# Altium schematic symbol library Power Module 1.Schlib: 1 symbol
Pins are listed as number, name and electrical type; pins without a type are passive.

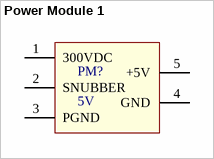
[diagram p0: symbol Power Module 1]

## Power Module 1
designator PM?, comment 5V
5V-170mA Power module
pins: 1 300VDC, 2 SNUBBER, 3 PGND, 4 GND, 5 +5V